# EAGLE library part PCM512X (library PP_DigitalIC)
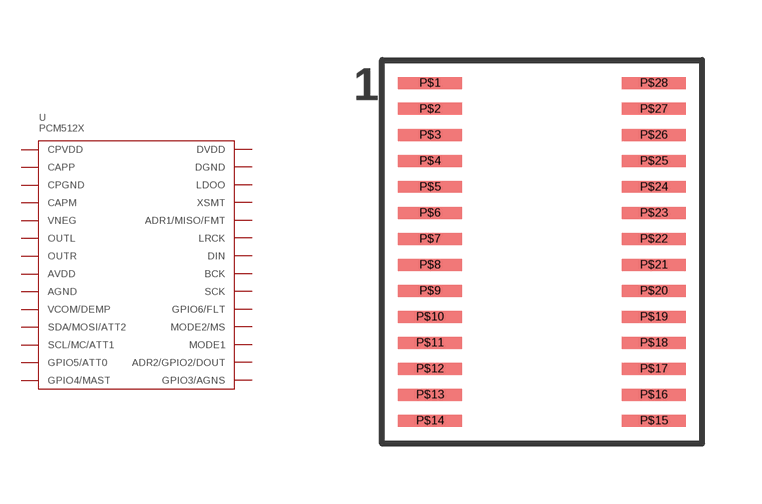
[diagram p34: symbol with the pads of PCM5122_TTSOP-28; footprint PCM5122_TTSOP-28]

Designator prefix U

## PCM512X  [PCM5122_TTSOP-28]
P$1  CPVDD
P$2  CAPP
P$3  CPGND
P$4  CAPM
P$5  VNEG
P$6  OUTL
P$7  OUTR
P$8  AVDD
P$9  AGND
P$10  VCOM/DEMP
P$11  SDA/MOSI/ATT2
P$12  SCL/MC/ATT1
P$13  GPIO5/ATT0
P$14  GPIO4/MAST
P$15  GPIO3/AGNS
P$16  ADR2/GPIO2/DOUT
P$17  MODE1
P$18  MODE2/MS
P$19  GPIO6/FLT
P$20  SCK
P$21  BCK
P$22  DIN
P$23  LRCK
P$24  ADR1/MISO/FMT
P$25  XSMT
P$26  LDOO
P$27  DGND
P$28  DVDD

## Footprint PCM5122_TTSOP-28 (pad centres in mm)
smd 1.6 x 0.3: P$1 -2.8,4.225; P$2 -2.8,3.575; P$3 -2.8,2.925; P$4 -2.8,2.275; P$5 -2.8,1.625; P$6 -2.8,0.975; P$7 -2.8,0.325; P$8 -2.8,-0.325; P$9 -2.8,-0.975; P$10 -2.8,-1.625; P$11 -2.8,-2.275; P$12 -2.8,-2.925; P$13 -2.8,-3.575; P$14 -2.8,-4.225; P$15 2.8,-4.225; P$16 2.8,-3.575; P$17 2.8,-2.925; P$18 2.8,-2.275; P$19 2.8,-1.625; P$20 2.8,-0.975; P$21 2.8,-0.325; P$22 2.8,0.325; P$23 2.8,0.975; P$24 2.8,1.625; P$25 2.8,2.275; P$26 2.8,2.925; P$27 2.8,3.575; P$28 2.8,4.225